# Altium footprint library Hrafn.PcbLib: 22 footprints (part 1 of 2)
Each footprint in its own frame and in the unit in brackets; x right, y up, seen from the top. Pads: shape width x height; smd on the part's side, far side on the other; paste and mask are expansions set on the pad; w line width, h text height; cw(c..) or ccw(c..) is an arc to the next point about the centre after c.
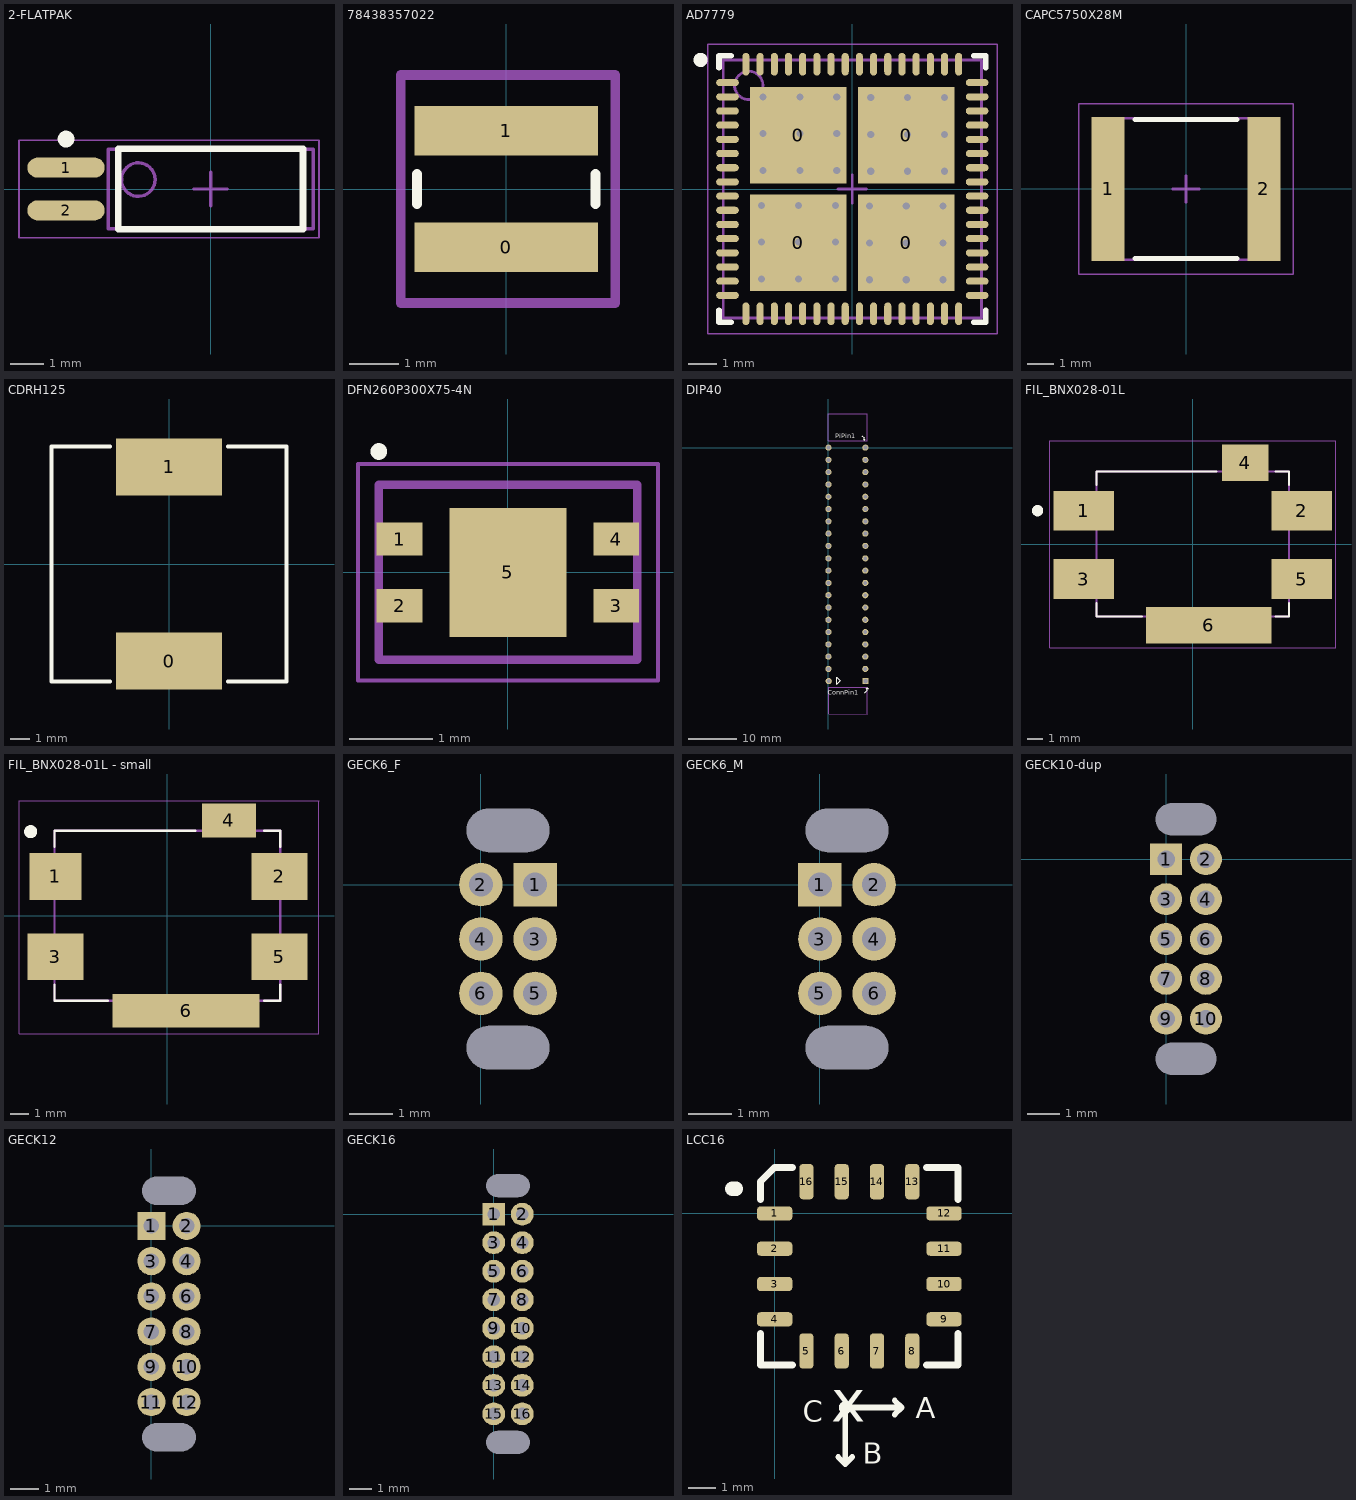
[diagram p0: the footprints below, top view; thin cyan lines are the x and y axes]

## 2-FLATPAK [mm] "CFP, 4-Leads, Body 2.36x6.10mm (max), Pitch 1.27mm, IPC Medium Density"
height 1.27
pads (2):
  oval 2.3x0.6 smd: 1(-4.3,0.635) 2(-4.3,-0.635)
Top Overlay:
  circle w0.25: c-4.3,1.485 r0.125
  lines w0.2: -2.75,-1.2 2.75,-1.2 2.75,1.2 -2.75,1.2 -2.75,-1.2
Mechanical 13:
  circle w0.1: c-2.15,0.28 r0.5
  lines w0.1: -3.05,-1.18 3.05,-1.18 3.05,1.18 -3.05,1.18 -3.05,-1.18
Mechanical 15:
  lines w0.05: -5.7,-1.45 3.225,-1.45 3.225,1.45 -5.7,1.45 -5.7,-1.45
  lines w0.1: -0.5,0 0.5,0 ; 0,-0.5 0,0.5
3D body: height 1.27, standoff 0.1, extent -3.05,-1.18 3.05,1.18

## 0603 [mm]

## 78438357022 [mm]
pads (2):
  rect 3.7x1 smd: 0(0,-1.175) 1(0,1.175)
Top Overlay:
  lines w0.2: -1.8,-0.3 -1.8,0.3 ; 1.8,-0.3 1.8,0.3
Mechanical 15:
  lines w0.2: -2.125,-2.3 -2.125,2.3 2.2,2.3 2.2,-2.3 -2.125,-2.3
3D body: height 2.45, standoff 0, extent -2.05,-2.05 2.05,2.025

## AD7779 [mm] "QFN, 64-Leads, Body 9.00x9.00mm, Pitch 0.50mm, Thermal Pad 7.55x7.55mm, IPC Medium Density"
height 0.8
pads (68):
  rect 3.4x3.4 smd: 0(-1.9,-1.9) 0(-1.9,1.9) 0(1.9,-1.9) 0(1.9,1.9)
  oval 0.8x0.25 smd: 1(-4.4,3.75) 2(-4.4,3.25) 3(-4.4,2.75) 4(-4.4,2.25) 5(-4.4,1.75) 6(-4.4,1.25) 7(-4.4,0.75) 8(-4.4,0.25) 9(-4.4,-0.25) 10(-4.4,-0.75) 11(-4.4,-1.25) 12(-4.4,-1.75) 13(-4.4,-2.25) 14(-4.4,-2.75) 15(-4.4,-3.25) 16(-4.4,-3.75) 33(4.4,-3.75) 34(4.4,-3.25) 35(4.4,-2.75) 36(4.4,-2.25) 37(4.4,-1.75) 38(4.4,-1.25) 39(4.4,-0.75) 40(4.4,-0.25) 41(4.4,0.25) 42(4.4,0.75) 43(4.4,1.25) 44(4.4,1.75) 45(4.4,2.25) 46(4.4,2.75) 47(4.4,3.25) 48(4.4,3.75)
  oval 0.25x0.8 smd: 17(-3.75,-4.4) 18(-3.25,-4.4) 19(-2.75,-4.4) 20(-2.25,-4.4) 21(-1.75,-4.4) 22(-1.25,-4.4) 23(-0.75,-4.4) 24(-0.25,-4.4) 25(0.25,-4.4) 26(0.75,-4.4) 27(1.25,-4.4) 28(1.75,-4.4) 29(2.25,-4.4) 30(2.75,-4.4) 31(3.25,-4.4) 32(3.75,-4.4) 49(3.75,4.4) 50(3.25,4.4) 51(2.75,4.4) 52(2.25,4.4) 53(1.75,4.4) 54(1.25,4.4) 55(0.75,4.4) 56(0.25,4.4) 57(-0.25,4.4) 58(-0.75,4.4) 59(-1.25,4.4) 60(-1.75,4.4) 61(-2.25,4.4) 62(-2.75,4.4) 63(-3.25,4.4) 64(-3.75,4.4)
via -0.6,-3.175 diameter 0.6 hole 0.25
via -1.9,-3.175 diameter 0.6 hole 0.25
via -3.2,-3.175 diameter 0.6 hole 0.25
via -0.6,-1.875 diameter 0.6 hole 0.25
via -1.9,-1.875 diameter 0.6 hole 0.25
via -0.6,-0.575 diameter 0.6 hole 0.25
via -1.9,-0.575 diameter 0.6 hole 0.25
via -3.2,-0.575 diameter 0.6 hole 0.25
via -0.55,0.65 diameter 0.6 hole 0.25
via -1.85,0.65 diameter 0.6 hole 0.25
via -3.15,0.65 diameter 0.6 hole 0.25
via -0.55,1.95 diameter 0.6 hole 0.25
via -1.85,1.95 diameter 0.6 hole 0.25
via -3.15,1.95 diameter 0.6 hole 0.25
via -0.55,3.25 diameter 0.6 hole 0.25
via -1.85,3.25 diameter 0.6 hole 0.25
via -3.15,3.25 diameter 0.6 hole 0.25
via 1.9,-3.2 diameter 0.6 hole 0.25
via 0.6,-3.2 diameter 0.6 hole 0.25
via 3.2,-1.9 diameter 0.6 hole 0.25
via 1.9,-1.9 diameter 0.6 hole 0.25
via 0.6,-1.9 diameter 0.6 hole 0.25
via 3.2,-0.6 diameter 0.6 hole 0.25
via 1.9,-0.6 diameter 0.6 hole 0.25
via 0.6,-0.6 diameter 0.6 hole 0.25
via 3.25,0.625 diameter 0.6 hole 0.25
via 1.95,0.625 diameter 0.6 hole 0.25
via 0.65,0.625 diameter 0.6 hole 0.25
via 3.25,1.925 diameter 0.6 hole 0.25
via 1.95,1.925 diameter 0.6 hole 0.25
via 0.65,1.925 diameter 0.6 hole 0.25
via 3.25,3.225 diameter 0.6 hole 0.25
via 1.95,3.225 diameter 0.6 hole 0.25
via 0.65,3.225 diameter 0.6 hole 0.25
via -3.2,-1.875 diameter 0.6 hole 0.25
via 3.2,-3.2 diameter 0.6 hole 0.25
Top Overlay:
  circle w0.25: c-5.35,4.55 r0.125
  lines w0.2: -4.7,-4.275 -4.7,-4.7 -4.275,-4.7 ; -4.7,4.275 -4.7,4.7 -4.275,4.7 ; 4.275,-4.7 4.7,-4.7 4.7,-4.275 ; 4.275,4.7 4.7,4.7 4.7,4.275
Mechanical 13:
  circle w0.1: c-3.65,3.65 r0.5
  lines w0.1: -4.55,-4.55 4.55,-4.55 4.55,4.55 -4.55,4.55 -4.55,-4.55
Mechanical 15:
  lines w0.05: -5.1,-5.1 5.1,-5.1 5.1,5.1 -5.1,5.1 -5.1,-5.1
  lines w0.1: -0.5,0 0.5,0 ; 0,-0.5 0,0.5
3D body: height 0.8, standoff 0.01, extent -4.55,-4.55 4.55,4.55

## CAPC5750X28M [mm] "Chip Capacitor, 2-Leads, Body 5.70x5.00mm, IPC Low Density"
height 2.8
pads (2):
  rect 1.25x5.5 smd: 1(-2.975,0) 2(2.975,0)
Top Overlay:
  lines w0.2: -1.95,-2.65 1.95,-2.65 ; -1.95,2.65 1.95,2.65
Mechanical 13:
  lines w0.1: -3.05,-2.7 3.05,-2.7 3.05,2.7 -3.05,2.7 -3.05,-2.7
Mechanical 15:
  lines w0.05: -4.1,-3.25 4.1,-3.25 4.1,3.25 -4.1,3.25 -4.1,-3.25
  lines w0.1: -0.5,0 0.5,0 ; 0,-0.5 0,0.5
3D body: height 2.8, standoff 0, extent 2.8,-2.7 3.05,2.7
3D body: height 2.8, standoff 0, extent -3.05,-2.7 -2.8,2.7
3D body: height 2.8, standoff 0, extent -2.8,-2.7 2.8,2.7

## CDRH125 [mm]
pads (2):
  rect 5.4x2.9 smd: 0(0,-4.95) 1(0,4.95)
Top Overlay:
  lines w0.2: -3,-6 -6,-6 -6,6 -3,6 ; 3,-6 6,-6 6,6 3,6
3D body: height 6, standoff 0, extent -6,-5.975 6.025,6

## DFN260P300X75-4N [mm] "DFN, 4-Leads, Body 2.00x3.00mm, Pitch 2.60mm, IPC Medium Density"
height 0.75
pads (5):
  rect 0.55x0.4 smd: 1(-1.3,0.4) 2(-1.3,-0.4) 3(1.3,-0.4) 4(1.3,0.4)
  rect 1.4x1.55 smd: 5(0,0)
Top Overlay:
  circle w0.1: c-1.55,1.45 r0.05
Mechanical 13:
  lines w0.1: -1.55,-1.05 -1.55,1.05 1.55,1.05 1.55,-1.05 -1.55,-1.05
Mechanical 15:
  lines w0.05: -1.8,-1.3 -1.8,1.3 1.8,1.3 1.8,-1.3 -1.8,-1.3
  lines w0.1: -0.5,0 0.5,0 ; 0,-0.5 0,0.5
3D body: height 0.75, standoff 0.05, extent -1.55,-1.05 1.55,1.05

## DIP40 [mil]
pads (40):
  round 50 hole 32: 1(300,0) 2(0,0) 3(300,-100) 4(0,-100) 5(300,-200) 6(0,-200) 7(300,-300) 8(0,-300) 9(300,-400) 10(0,-400) 11(300,-500) 12(0,-500) 13(300,-600) 14(0,-600) 15(300,-700) 16(0,-700) 17(300,-800) 18(0,-800) 19(299.82,-901.76) 20(-0.18,-901.76) 21(299.82,-1001.76) 22(-0.18,-1001.76) 23(299.82,-1101.76) 24(-0.18,-1101.76) 25(299.82,-1201.76) 26(-0.18,-1201.76) 27(299.82,-1301.76) 28(-0.18,-1301.76) 29(299.82,-1401.76) 30(-0.18,-1401.76) 31(299.82,-1501.76) 32(-0.18,-1501.76) 33(299.82,-1601.76) 34(-0.18,-1601.76) 35(299.82,-1701.76) 36(-0.18,-1701.76) 37(299.82,-1801.76) 38(-0.18,-1801.76) 40(2.18,-1900.88)
  rect 50x50 hole 32: 39(302.18,-1900.88)
Top Overlay:
  lines w8: 271.65,98.43 291.34,78.74 291.34,59.06 ; 283.46,66.93 291.34,59.06 ; 295.28,-1996.06 314.96,-1976.38 314.96,-1956.69 ; 299.21,66.93 291.34,59.06 ; 307.09,-1964.57 314.96,-1956.69 ; 322.83,-1964.57 314.96,-1956.69 ; 66.93,-1925.2 94.49,-1897.64 66.93,-1870.08 66.93,-1925.2
  text "ConnPin1" at -7.75,-2011.68 h40
  text "PiPin1" at 55.24,74.93 h40
Mechanical 1:
  lines w10: 0,57.09 314.96,56.63 314.96,273.62 0,273.62 0,57.09 ; 0.98,-2168.31 0.98,-1951.77 315.94,-1951.77 315.94,-2168.77 0.98,-2168.31
  text "screw / keepout" at 15.75,146.65 h35
  text "screw / keepout" at 16.73,-2078.74 h35
3D body "901522140.stp": height 231.1, standoff -118.9, extent -13.77,-1948.82 320.87,51.18

## FIL_BNX028-01L [mm]
pads (6):
  rect 3.8x2.5 smd: 1(-6.85,2.1) 2(6.85,2.1) 3(-6.85,-2.2) 5(6.85,-2.2)
  rect 2.9x2.3 smd: 4(3.3,5.1)
  rect 7.9x2.3 smd: 6(1,-5.1)
Top Overlay:
  circle w0.5: c-9.75,2.1 r0.1
  lines w0.127: -6.05,-3.7 -6.05,-4.55 -3.2,-4.55 ; -6.05,3.7 -6.05,4.55 1.5,4.55 ; 5.2,-4.55 6.05,-4.55 6.05,-3.7 ; 5.2,4.55 6.05,4.55 6.05,3.7
Mechanical 13:
  lines w0.127: -6.05,-4.55 6.05,-4.55 6.05,4.55 -6.05,4.55 -6.05,-4.55
Mechanical 15:
  lines w0.05: -9,-6.5 9,-6.5 9,6.5 -9,6.5 -9,-6.5
3D body "BNX028-01L.STEP": height 3.7, standoff 0, extent -6.05,-4.55 6.05,4.55

## FIL_BNX028-01L - small [mm]
pads (6):
  rect 2.8x2.5 smd: 1(-6,2.1)
  rect 3x2.5 smd: 2(6,2.1) 3(-6,-2.2) 5(6,-2.2)
  rect 2.9x1.8 smd: 4(3.3,5.1)
  rect 7.9x1.8 smd: 6(1,-5.1)
Top Overlay:
  circle w0.5: c-7.325,4.5 r0.1
  lines w0.127: -6.05,-3.7 -6.05,-4.55 -3.2,-4.55 ; -6.05,3.7 -6.05,4.55 1.5,4.55 ; 5.2,-4.55 6.05,-4.55 6.05,-3.7 ; 5.2,4.55 6.05,4.55 6.05,3.7
Mechanical 13:
  lines w0.127: -6.05,-4.55 6.05,-4.55 6.05,4.55 -6.05,4.55 -6.05,-4.55
Mechanical 15:
  lines w0.05: -7.95,-6.325 8.125,-6.325 8.125,6.15 -7.95,6.15 -7.95,-6.325
3D body "BNX028-01L.STEP": height 3.7, standoff 0, extent -6.05,-4.55 6.05,4.55

## GECK6_F [mm]
pads (8):
  round 0 hole 1 slot 1.9 at 0 deg unplated: 0(0.625,-3.75) 0(0.625,1.25)
  rect 1x1 hole 0.55: 1(1.25,0)
  round 1 hole 0.55: 2(0,0) 3(1.25,-1.25) 4(0,-1.25) 5(1.25,-2.5) 6(0,-2.5)
3D body "g125-fv10605l0_asm.stp": height 4.8, standoff -3.45, extent -1.85,-4.4 3.05,1.9

## GECK6_M [mm]
pads (8):
  round 0 hole 1 slot 1.9 at 0 deg unplated: 0(0.625,-3.75) 0(0.625,1.25)
  rect 1x1 hole 0.55: 1(0,0)
  round 1 hole 0.55: 2(1.25,0) 3(0,-1.25) 4(1.25,-1.25) 5(0,-2.5) 6(1.25,-2.5)
3D body "g125-mv10605l1_asm.stp": height 6.8, standoff -3, extent -1.845,-5.219 3.055,2.661

## GECK10-dup [mm]
pads (12):
  round 0 hole 1 slot 1.9 at 0 deg unplated: 0(0.625,-6.25) 0(0.625,1.25)
  rect 1x1 hole 0.55: 1(0,0)
  round 1 hole 0.55: 2(1.25,0) 3(0,-1.25) 4(1.25,-1.25) 5(0,-2.5) 6(1.25,-2.5) 7(0,-3.75) 8(1.25,-3.75) 9(0,-5) 10(1.25,-5)
3D body "g125-mv11005l1_asm.stp": height 6.8, standoff -3, extent -1.84,-7.665 3.06,2.715

## GECK12 [mm]
pads (14):
  round 0 hole 1 slot 1.9 at 0 deg unplated: 0(0.625,-7.5) 0(0.625,1.25)
  rect 1x1 hole 0.55: 1(0,0)
  round 1 hole 0.55: 2(1.25,0) 3(0,-1.25) 4(1.25,-1.25) 5(0,-2.5) 6(1.25,-2.5) 7(0,-3.75) 8(1.25,-3.75) 9(0,-5) 10(1.25,-5) 11(0,-6.25) 12(1.25,-6.25)
3D body "g125-mv11205l1_asm.stp": height 6.8, standoff -3, extent -1.85,-8.94 3.05,2.69

## GECK16 [mm]
pads (18):
  round 0 hole 1 slot 1.9 at 0 deg unplated: 0(0.625,-10) 0(0.625,1.25)
  rect 1x1 hole 0.55: 1(0,0)
  round 1 hole 0.55: 2(1.25,0) 3(0,-1.25) 4(1.25,-1.25) 5(0,-2.5) 6(1.25,-2.5) 7(0,-3.75) 8(1.25,-3.75) 9(0,-5) 10(1.25,-5) 11(0,-6.25) 12(1.25,-6.25) 13(0,-7.5) 14(1.25,-7.5) 15(0,-8.75) 16(1.25,-8.75)
3D body "g125-mv11605l1_asm.stp": height 6.8, standoff -3, extent -1.825,-11.415 3.075,2.715

## LCC16 [mil]
pads (16):
  rrect50% 50x20 smd: 1(0,0) 2(0,-50) 3(0,-100) 4(0,-150) 9(240,-150) 10(240,-100) 11(240,-50) 12(240,0)
  rrect50% 20x50 smd: 5(45,-195) 6(95,-195) 7(145,-195) 8(195,-195) 13(195,45) 14(145,45) 15(95,45) 16(45,45)
Top Overlay:
  circle w8: c100,-275 r5
  lines w8: 90,-345 100,-355 ; 170,-265 180,-275 ; 100,-355 110,-345 100,-355 ; 100,-355 100,-275 180,-275 ; 180,-275 170,-285 180,-275
  lines w10: -20,-170 -20,-215 25,-215 ; -20,20 -20,45 0,65 25,65 ; 215,-215 260,-215 260,-170 ; 215,65 260,65 260,20
  lines w20: -60,35 -55,35
  text "C" at 40,-295 h30
  text "B" at 125,-355 h30
  text "A" at 200,-290 h30
  text "x" at 80,-295 h60
3D body: height 110, standoff 3, extent -25,-220 265,70